# Altium footprint library VCO.PcbLib: 1 footprints
Each footprint in its own frame and in the unit in brackets; x right, y up, seen from the top. Pads: shape width x height; smd on the part's side, far side on the other; paste and mask are expansions set on the pad; w line width, h text height; cw(c..) or ccw(c..) is an arc to the next point about the centre after c.
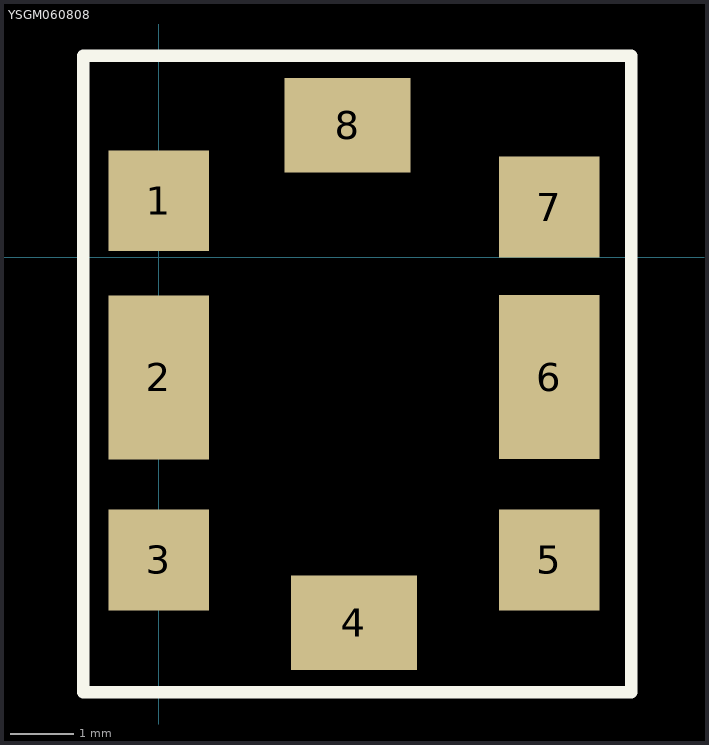
[diagram p0: the footprint, top view; thin cyan lines are the x and y axes]

## YSGM060808 [mm]
pads (8):
  rect 1.6x1.6 smd: 1(0,0.9) 3(0,-4.8) 5(6.2,-4.8) 7(6.2,0.8)
  rect 1.6x2.6 smd: 2(0,-1.905) 6(6.2,-1.9)
  rect 2x1.5 smd: 4(3.1,-5.8) 8(3,2.1)
Top Overlay:
  lines w0.2: -1.2,-6.9 7.5,-6.9 7.5,3.2 -1.2,3.2 -1.2,-6.9
3D body: height 2, standoff 0, extent 0.25,-5.4 6.15,1.6